# Altium footprint library Gimbal.PcbLib: 23 footprints (part 1 of 2)
Each footprint in its own frame and in the unit in brackets; x right, y up, seen from the top. Pads: shape width x height; smd on the part's side, far side on the other; paste and mask are expansions set on the pad; w line width, h text height; cw(c..) or ccw(c..) is an arc to the next point about the centre after c.
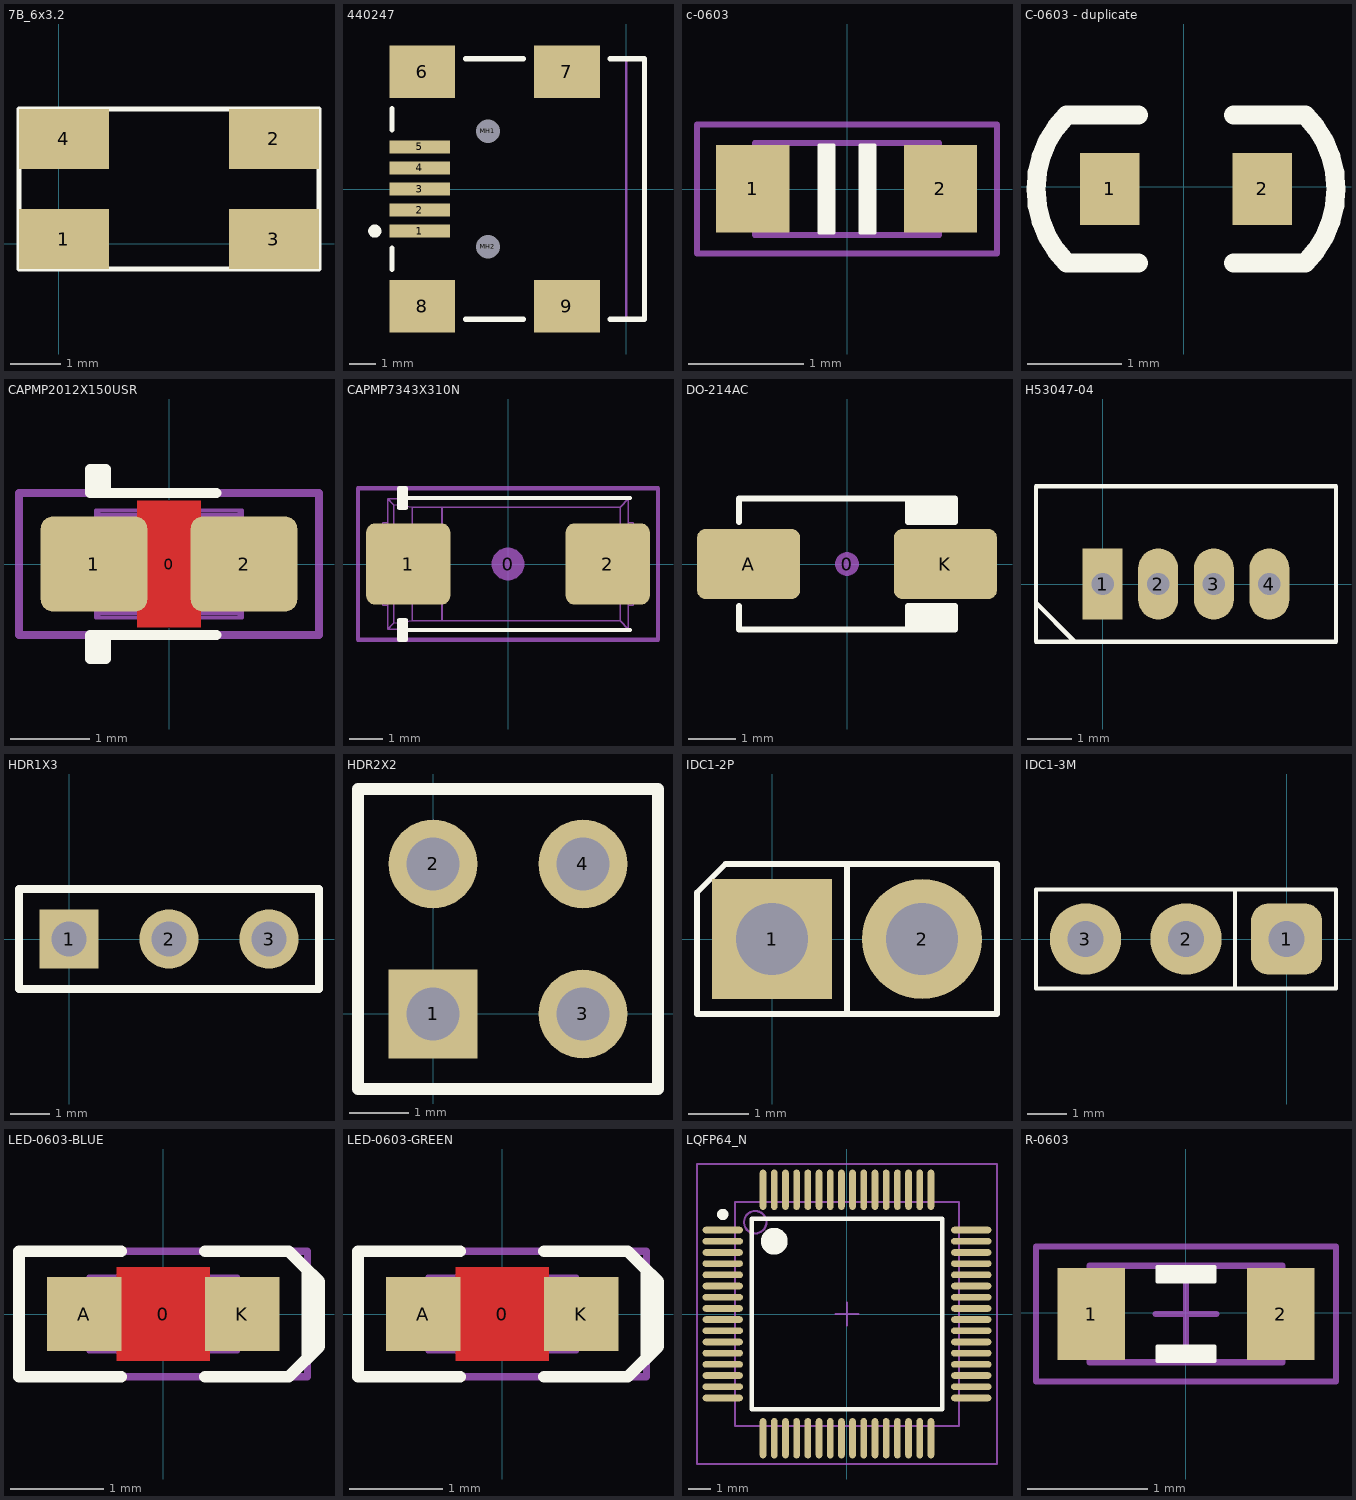
[diagram p0: the footprints below, top view; thin cyan lines are the x and y axes]

## 7B_6x3.2 [mm]
pads (4):
  rect 1.8x1.2 smd: 1(0.1,0.1) 2(4.3,2.1) 3(4.3,0.1) 4(0.1,2.1)
Top Overlay:
  lines w0.1: -0.8,-0.5 5.2,-0.5 5.2,2.7 -0.8,2.7 -0.8,-0.5

## 440247 [mm] "Connector; USB2.0, Type B, SM; 5 Position; Right Angle"
height 3.9
pads (11):
  rect 2.3x0.5 smd: 1(-7.85,-1.6) 2(-7.85,-0.8) 3(-7.85,0) 4(-7.85,0.8) 5(-7.85,1.6)
  rect 2.5x2 smd: 6(-7.75,4.45) 7(-2.25,4.45) 8(-7.75,-4.45) 9(-2.25,-4.45)
  round 0.6 hole 0.9 unplated: MH1(-5.25,2.2) MH2(-5.25,-2.2)
Top Overlay:
  circle w0.25: c-9.55,-1.6 r0.125
  lines w0.2: -8.9,-3.05 -8.9,-2.25 ; -8.9,2.25 -8.9,3.05 ; -6.1,-4.95 -3.9,-4.95 ; -6.1,4.95 -3.9,4.95 ; -0.6,-4.95 0.7,-4.95 0.7,4.95 -0.6,4.95
Mechanical 1:
  lines w0.1: 0,-4.95 0,4.95
  text "PCB Edge" at 0.432,-4.036 h0.25

## c-0603 [mil]
pads (2):
  rect 25x30 smd: 1(-32.13,0.08) 2(31.87,0.08)
Top Overlay:
  region: -4.5,15 -9.5,15 -9.5,-15 -4.5,-15
  region: 4.5,-15 9.5,-15 9.5,15 4.5,15
  lines w1: -9.5,-15 -9.5,15 -4.5,15 -4.5,-15 -9.5,-15 ; 4.5,-15 9.5,-15 9.5,15 4.5,15 4.5,-15
Mechanical 13:
  lines w2: -31.5,-15.75 -31.5,15.75 31.5,15.75 31.5,-15.75 -31.5,-15.75
Mechanical 14:
  lines w2: -51.18,-22 -51.18,22 51.18,22 51.18,-22 -51.18,-22
3D body "CAPC1608X08L.step": height 31.5, standoff 0, extent -31.49,-15.74 31.5,15.75
3D body "CAPC1608X08L.step": height 31.5, standoff 0, extent -30.67,-15.67 32.32,15.83

## C-0603 - duplicate [mil]
pads (2):
  rect 25x30 smd: 1(-31.14,-0.91) 2(32.86,-0.91)
Top Overlay:
  lines w8: -19.14,-31.91 -49.14,-31.91 cw(c-18.14,-0.91) -49.14,30.09 -19.14,30.09 ; 20.86,-31.91 50.86,-31.91 ccw(c19.86,-0.91) 50.86,30.09 20.86,30.09
3D body "CAPC1608X08L.step": height 31.5, standoff 0, extent -29.68,-16.65 33.31,14.84

## CAPMP2012X150USR [mm] "Molded body capacitor, Body 2.0x1.2mm, 0805, IPC Medium Density"
height 1.5
pads (3):
  round 0.254 on Mech14: 0(0,0)
  rrect25% 1.35x1.2 smd: 1(-0.95,0) 2(0.95,0)
Top Layer:
  pour cut-out: -0.4,0.8 0.4,0.8 0.4,-0.8 -0.4,-0.8
Top Overlay:
  lines w0.127: -0.9,-1.2 -0.9,-0.9 ; -0.9,0.9 -0.9,1.2 ; -0.8,-0.9 -0.8,-1.2 -1,-1.2 -1,-0.9 0.6,-0.9 ; -0.8,0.9 -0.8,1.2 -1,1.2 -1,0.9 0.6,0.9
Mechanical 13:
  lines w0.05: -1.025,-0.25 -0.925,-0.25 ; -1.025,0.25 -0.925,0.25 ; -0.925,-0.5 -1.025,-0.5 -1.025,0.5 -0.925,0.5 ; -0.373,-0.623 -0.373,0.623 ; 0.925,-0.5 1.025,-0.5 1.025,0.5 0.925,0.5 ; 0.925,-0.25 1.025,-0.25 ; 0.925,0.25 1.025,0.25 ; -0.925,-0.675 0.925,-0.675 ; -0.925,-0.675 -0.925,0.675 ; -0.925,-0.675 -0.873,-0.623 ; -0.925,0.675 0.925,0.675 ; -0.925,0.675 -0.873,0.623 ; -0.873,-0.623 0.873,-0.623 ; -0.873,-0.623 -0.873,0.623 ; -0.873,0.623 0.873,0.623 ; 0.873,-0.623 0.925,-0.675 ; 0.873,-0.623 0.873,0.623 ; 0.873,0.623 0.925,0.675 ; 0.925,-0.675 0.925,0.675
Mechanical 14:
  lines w0.1: -1.9,-0.9 1.9,-0.9 1.9,0.9 -1.9,0.9 -1.9,-0.9
3D body "CAPMP2012X150N.STEP": height 1.5, standoff 0, extent -1.025,-0.675 1.025,0.675

## CAPMP7343X310N [mm] "Molded body capacitor, Body 7.3x4.3mm, 2917, IPC Nominal settings"
height 3.1
pads (3):
  round 1 on Mech14: 0(0,0)
  rrect20% 2.55x2.45 smd: 1(-3.025,0) 2(3.025,0)
Top Overlay:
  lines w0.127: -3.3,-2 3.7,-2 ; -3.3,2 3.7,2 ; -3.2,-2.3 -3.2,-2 -3.2,-1.7 ; -3.2,1.7 -3.2,2 -3.2,2.3 ; -3.3,-2.3 -3.1,-2.3 -3.1,-2 -3.1,-1.7 -3.3,-1.7 -3.3,-2.3 ; -3.3,1.7 -3.1,1.7 -3.1,2 -3.1,2.3 -3.3,2.3 -3.3,1.7
Mechanical 13:
  lines w0.05: -3.8,-0.5 -3.65,-0.5 ; -3.8,0.5 -3.65,0.5 ; -3.67,-0.5 -3.67,0.5 ; -3.65,-1.25 -3.8,-1.25 -3.8,1.25 -3.65,1.25 ; -2.901,-0.575 -2.901,0.575 ; 3.65,-1.25 3.8,-1.25 3.8,1.25 3.65,1.25 ; 3.65,-0.5 3.8,-0.5 ; 3.65,0.5 3.8,0.5 ; 3.67,-0.5 3.67,0.5 ; -3.65,-1.975 3.65,-1.975 ; -3.65,-1.975 -3.471,-1.796 ; -3.65,-1.975 -3.65,1.975 ; -3.65,1.975 -3.471,1.796 ; -3.65,1.975 3.65,1.975 ; -3.471,-1.796 -2.907,-1.727 ; -3.471,-1.796 -3.471,1.796 ; -3.471,1.796 -2.907,1.727 ; -2.907,-1.727 -2.001,-1.727 ; -2.907,-1.727 -2.907,-0.575 -2.001,-0.575 -2.001,-1.727 ; -2.907,1.727 -2.001,1.727 ; -2.907,1.727 -2.907,0.575 -2.001,0.575 -2.001,1.727 ; -2.001,-1.727 3.401,-1.726 ; -2.001,1.727 3.401,1.726 ; 3.401,-1.726 3.65,-1.975 ; 3.401,-1.726 3.401,1.726 ; 3.401,1.726 3.65,1.975 ; 3.65,-1.975 3.65,1.975
Mechanical 14:
  lines w0.127: -4.55,-2.3 4.55,-2.3 4.55,2.3 -4.55,2.3 -4.55,-2.3
3D body "CAPMP7343X310N.STEP": height 3.1, standoff 0, extent -3.8,-1.975 3.8,1.975

## DO-214AC [mm] "JEDEC DO214 variation AC. SMA"
height 2.5
pads (3):
  round 0.508 on Mech14: 0(0,0)
  rrect25% 2.2x1.5 smd: A(-2.1,0) K(2.1,0)
Top Overlay:
  rectangle: 1.3,0.9 2.3,1.4
  rectangle: 1.3,-1.4 2.3,-0.9
  lines w0.127: -2.3,-0.9 -2.3,-1.4 2.3,-1.4 2.3,-0.9 1.3,-0.9 1.3,-1.4 ; -2.3,0.9 -2.3,1.4 2.3,1.4 2.3,0.9 1.3,0.9 ; 1.3,0.911 1.3,1.4
3D body "SW3dPS-DO-214AC SMA.STEP": height 2.42, standoff 0.02, extent -2.6,-1.3 2.6,1.3

## H53047-04 [mm]
pads (4):
  rect 0.9x1.6 hole 0.5: 1(0,0)
  oval 0.9x1.6 hole 0.5: 2(1.25,0) 3(2.5,0) 4(3.75,0)
Top Overlay:
  lines w0.1: -1.5,-0.425 -0.65,-1.275 ; -1.5,-1.3 5.25,-1.3 5.25,2.2 -1.5,2.2 -1.5,-1.3
3D body "User Library-53047-0410.step": height 4.17, standoff -2.33, extent -1.5,-1.3 5.25,2.2

## HDR1X3 [mm] "Connector; Header; 3 Position"
pads (3):
  rect 1.5x1.5 hole 0.9: 1(0,0)
  round 1.5 hole 0.9: 2(2.54,0) 3(5.08,0)
Top Overlay:
  lines w0.2: -1.27,-1.27 -1.27,1.27 6.35,1.27 6.35,-1.27 -1.27,-1.27

## HDR2X2 [mm] "Connector; Header; 2x2 Position"
pads (4):
  rect 1.5x1.5 hole 0.9: 1(0,0)
  round 1.5 hole 0.9: 2(0,2.54) 3(2.54,0) 4(2.54,2.54)
Top Overlay:
  lines w0.2: -1.27,-1.27 -1.27,3.81 3.81,3.81 3.81,-1.27 -1.27,-1.27

## IDC1-2P [mm]
pads (2):
  rect 2x2 hole 1.2: 1(0,0)
  round 2 hole 1.2: 2(2.5,0)
Top Overlay:
  lines w0.1: 1.25,-1.25 1.25,1.25 ; -1.25,-1.25 3.75,-1.25 3.75,1.25 -0.775,1.25 -1.25,0.775 -1.25,-1.25

## IDC1-3M [mm]
pads (3):
  rrect50% 1.8x1.8 hole 0.9: 1(0,0)
  round 1.8 hole 0.9: 2(-2.54,0) 3(-5.08,0)
Top Overlay:
  lines w0.1: -1.3,-1.25 -1.3,1.25 ; -6.33,-1.25 -6.33,1.25 1.25,1.25 1.25,-1.25 -6.33,-1.25

## LED-0603-BLUE [mm]
height 0.8
pads (3):
  round 0.254 on Mech14: 0(0,0)
  rect 0.8x0.8 smd: A(-0.85,0) K(0.85,0)
Top Layer:
  pour cut-out: -0.5,0.5 0.5,0.5 0.5,-0.5 -0.5,-0.5
Top Overlay:
  lines w0.127: -0.45,-0.675 -1.55,-0.675 -1.55,0.675 -0.45,0.675 ; 0.45,-0.675 1.35,-0.675 1.55,-0.475 1.55,0.475 1.35,0.675 0.45,0.675 ; 1.5,0.525 1.675,0.35 1.675,-0.35 1.525,-0.5
Mechanical 13:
  lines w0.05: -0.6,-0.4 -0.6,0.399 0.6,0.4 0.6,-0.4 -0.6,-0.399 ; -0.505,-0.398 -0.505,0.398 ; -0.5,-0.4 -0.8,-0.4 -0.8,0.4 -0.5,0.4 ; 0.5,-0.4 0.8,-0.4 0.8,0.4 0.5,0.4 ; 0.505,-0.398 0.505,0.398 ; -0.599,-0.398 0.599,-0.398 0.599,0.398 -0.599,0.398 -0.599,-0.398
Mechanical 14:
  lines w0.076: -1.55,-0.675 1.55,-0.675 1.55,0.675 -1.55,0.675 -1.55,-0.675
3D body "LED 0603 APT1608 BLUE.STEP": height 0.75, standoff 0, extent -0.8,-0.4 0.8,0.4

## LED-0603-GREEN [mm]
height 0.8
pads (3):
  round 0.254 on Mech14: 0(0,0)
  rect 0.8x0.8 smd: A(-0.85,0) K(0.85,0)
Top Layer:
  pour cut-out: -0.5,0.5 0.5,0.5 0.5,-0.5 -0.5,-0.5
Top Overlay:
  lines w0.127: -0.45,-0.675 -1.55,-0.675 -1.55,0.675 -0.45,0.675 ; 0.45,-0.675 1.35,-0.675 1.55,-0.475 1.55,0.475 1.35,0.675 0.45,0.675 ; 1.5,0.525 1.675,0.35 1.675,-0.35 1.525,-0.5
Mechanical 13:
  lines w0.05: -0.6,-0.4 -0.6,0.399 0.6,0.4 0.6,-0.4 -0.6,-0.399 ; -0.505,-0.398 -0.505,0.398 ; -0.5,-0.4 -0.8,-0.4 -0.8,0.4 -0.5,0.4 ; 0.5,-0.4 0.8,-0.4 0.8,0.4 0.5,0.4 ; 0.505,-0.398 0.505,0.398 ; -0.599,-0.398 -0.599,0.398 0.599,0.398 0.599,-0.398 -0.599,-0.398
Mechanical 14:
  lines w0.076: -1.55,-0.675 1.55,-0.675 1.55,0.675 -1.55,0.675 -1.55,-0.675
3D body "LED 0603 APT1608 GREEN.STEP": height 0.75, standoff 0, extent -0.8,-0.4 0.8,0.4

## LQFP64_N [mm] "Thin QFP, 64-Leads, Body 10x10mm, Pitch 0.5mm, IPC Medium Density"
height 1.6
pads (64):
  oval 1.8x0.3 smd: 1(-5.55,3.75) 2(-5.55,3.25) 3(-5.55,2.75) 4(-5.55,2.25) 5(-5.55,1.75) 6(-5.55,1.25) 7(-5.55,0.75) 8(-5.55,0.25) 9(-5.55,-0.25) 10(-5.55,-0.75) 11(-5.55,-1.25) 12(-5.55,-1.75) 13(-5.55,-2.25) 14(-5.55,-2.75) 15(-5.55,-3.25) 16(-5.55,-3.75) 33(5.55,-3.75) 34(5.55,-3.25) 35(5.55,-2.75) 36(5.55,-2.25) 37(5.55,-1.75) 38(5.55,-1.25) 39(5.55,-0.75) 40(5.55,-0.25) 41(5.55,0.25) 42(5.55,0.75) 43(5.55,1.25) 44(5.55,1.75) 45(5.55,2.25) 46(5.55,2.75) 47(5.55,3.25) 48(5.55,3.75)
  oval 0.3x1.8 smd: 17(-3.75,-5.55) 18(-3.25,-5.55) 19(-2.75,-5.55) 20(-2.25,-5.55) 21(-1.75,-5.55) 22(-1.25,-5.55) 23(-0.75,-5.55) 24(-0.25,-5.55) 25(0.25,-5.55) 26(0.75,-5.55) 27(1.25,-5.55) 28(1.75,-5.55) 29(2.25,-5.55) 30(2.75,-5.55) 31(3.25,-5.55) 32(3.75,-5.55) 49(3.75,5.55) 50(3.25,5.55) 51(2.75,5.55) 52(2.25,5.55) 53(1.75,5.55) 54(1.25,5.55) 55(0.75,5.55) 56(0.25,5.55) 57(-0.25,5.55) 58(-0.75,5.55) 59(-1.25,5.55) 60(-1.75,5.55) 61(-2.25,5.55) 62(-2.75,5.55) 63(-3.25,5.55) 64(-3.75,5.55)
Top Overlay:
  circle w0.25: c-5.55,4.45 r0.125
  circle w0.6: c-3.25,3.25 r0.3
  lines w0.2: -4.25,-4.25 -4.25,4.25 4.25,4.25 4.25,-4.25 -4.25,-4.25
Mechanical 13:
  circle w0.1: c-4.1,4.1 r0.5
  lines w0.1: -5,-5 -5,5 5,5 5,-5 -5,-5
Mechanical 15:
  lines w0.1: -0.5,0 0.5,0 ; 0,-0.5 0,0.5 ; -6.7,-6.7 -6.7,6.7 6.7,6.7 6.7,-6.7 -6.7,-6.7
3D body "User Library-lqpf64.STEP": height 1.5, standoff 0.02, extent -6,-6 6,6

## R-0603 [mil]
pads (2):
  rect 22x30 smd: 1(-30.99,-0.35) 2(31.01,-0.35)
Top Overlay:
  region: 9.51,-15.85 -9.49,-15.85 -9.49,-10.85 9.51,-10.85
  region: -9.49,15.15 9.51,15.15 9.51,10.15 -9.49,10.15
  lines w1: -9.49,-15.85 -9.49,-10.85 9.51,-10.85 9.51,-15.85 -9.49,-15.85 ; -9.49,10.15 9.51,10.15 9.51,15.15 -9.49,15.15 -9.49,10.15
Mechanical 13:
  lines w2: -9.99,-0.35 10.01,-0.35 ; 0.01,-10.35 0.01,9.65 ; -31.49,-16.09 31.5,-16.09 31.5,15.4 -31.49,15.4 -31.49,-16.09
Mechanical 14:
  lines w2: -48.99,-22.35 -48.99,21.65 49.01,21.65 49.01,-22.35 -48.99,-22.35
3D body "RESC1608X05L.step": height 17.72, standoff 0, extent -31.48,-16.09 31.51,15.4